# EAGLE library part 1365-14 (library con-leotronics)
DUAL ROW STRAIGHT HEADER 1364 SERIES. 1.27mm x 1.27mm. Without Fixing Post. SMT Source: http://www.leotronics.co.uk/Conexcon/Data%20Sheets/sec.%20A/1364ing.pdf
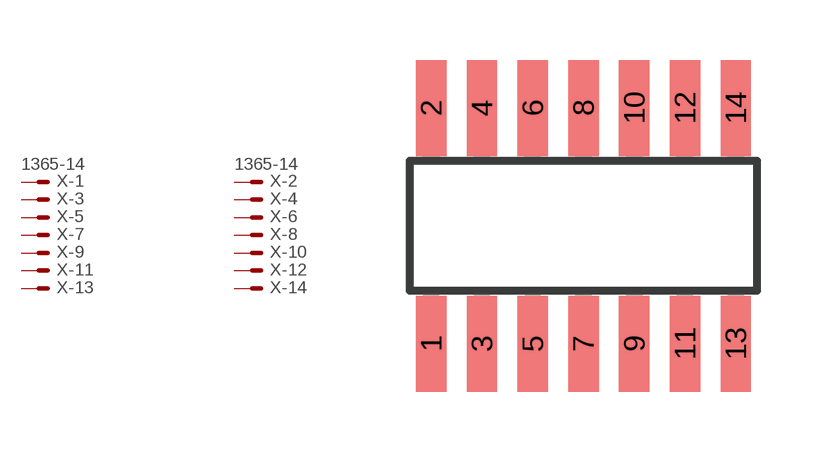
[diagram p37: symbol with the pads of 1365-14; footprint 1365-14]

Designator prefix X; gates -1=MVAL -2=MVAL -3=M -4=M -5=M -6=M -7=M -8=M -9=M -10=M -11=M -12=M -13=M -14=M

## 1365-14 (OC_FARNELL: unknown; OC_NEWARK: unknown)  [1365-14]
1  -1:S  pas
2  -2:S  pas
3  -3:S  pas
4  -4:S  pas
5  -5:S  pas
6  -6:S  pas
7  -7:S  pas
8  -8:S  pas
9  -9:S  pas
10  -10:S  pas
11  -11:S  pas
12  -12:S  pas
13  -13:S  pas
14  -14:S  pas

## Footprint 1365-14 (pad centres in mm)
DUAL ROW STRAIGHT HEADER 1364 SERIES. 1.27mm x 1.27mm. Without Fixing Post. SMT Source: http://www.leotronics.co.uk/Conexcon/Data%20Sheets/sec.%20A/1364ing.pdf
smd 0.76 x 2.4: 1 -3.81,-2.95; 2 -3.81,2.95; 3 -2.54,-2.95; 4 -2.54,2.95; 5 -1.27,-2.95; 6 -1.27,2.95; 7 0,-2.95; 8 0,2.95; 9 1.27,-2.95; 10 1.27,2.95; 11 2.54,-2.95; 12 2.54,2.95; 13 3.81,-2.95; 14 3.81,2.95